# Altium schematic symbol library xSchlib.SchLib: 2 symbols
Pins are listed as number, name and electrical type; pins without a type are passive.

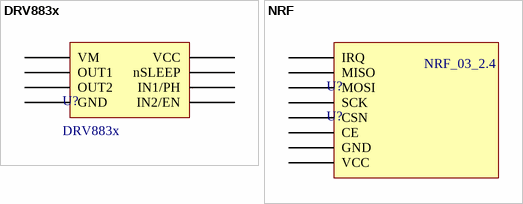
[diagram p0: symbols DRV883x to NRF]

## DRV883x
designator U?
footprint WSON-8
pins: 1 VM, 2 OUT1, 3 OUT2, 4 GND, 5 IN2/EN, 6 IN1/PH, 7 nSLEEP, 8 VCC

## NRF
designator U?, comment U?
NRF24L01
footprint NRF-1
pins: 1 VCC, 2 GND, 3 CE, 4 CSN, 5 SCK, 6 MOSI, 7 MISO, 8 IRQ
text: NRF_03_2.4